# Altium footprint library rocke_mcu.PcbLib: 33 footprints (part 3 of 3)
Each footprint in its own frame and in the unit in brackets; x right, y up, seen from the top. Pads: shape width x height; smd on the part's side, far side on the other; paste and mask are expansions set on the pad; w line width, h text height; cw(c..) or ccw(c..) is an arc to the next point about the centre after c.
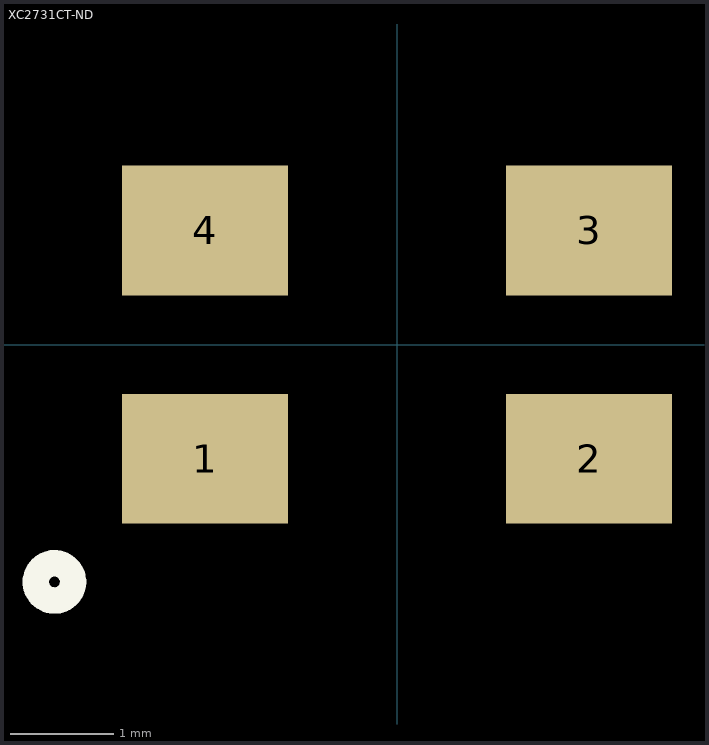
[diagram p2: the footprint, top view; thin cyan lines are the x and y axes]

## XC2731CT-ND [mm]
pads (4):
  rect 1.6x1.25 smd: 1(-1.85,-1.1) 2(1.85,-1.1) 3(1.85,1.1) 4(-1.85,1.1)
Top Overlay:
  lines w0.254: -3.132,-2.229 ccw(c-3.302,-2.286) -3.122,-2.286
3D body "ECS-100-20-30B-TR--3DModel-STEP-40055.STEP": height 0.85, standoff 0, extent -2.5,-1.6 2.5,1.6